# Altium footprint library CON SFM-115-02-x-D.PcbLib: 1 footprints
Each footprint in its own frame and in the unit in brackets; x right, y up, seen from the top. Pads: shape width x height; smd on the part's side, far side on the other; paste and mask are expansions set on the pad; w line width, h text height; cw(c..) or ccw(c..) is an arc to the next point about the centre after c.
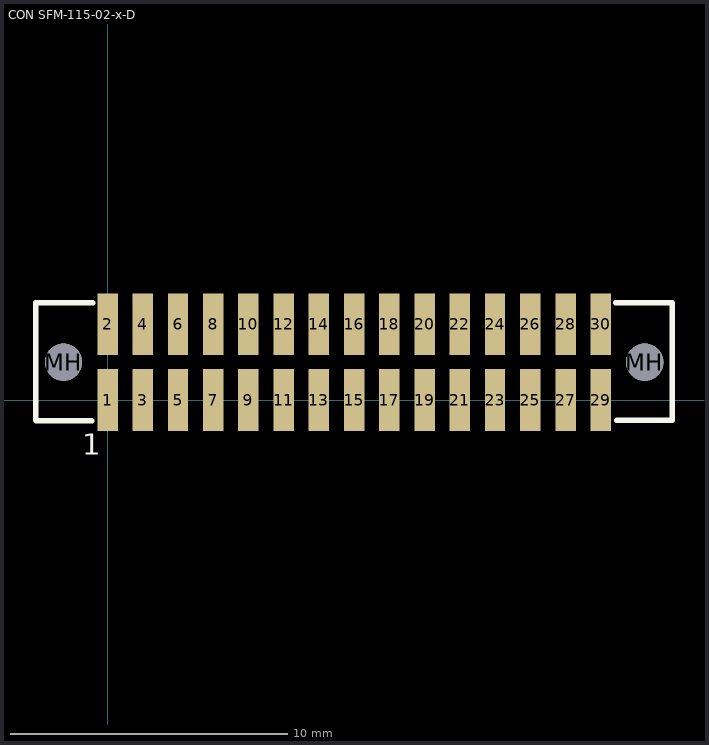
[diagram p0: the footprint, top view; thin cyan lines are the x and y axes]

## CON SFM-115-02-x-D [mil] "Samtec CON SFM-115-02-x-D Surface Mount Connector"
pads (32):
  rect 29x87.5 smd: 1(0,0) 2(0,107.5) 3(50,0) 4(50,107.5) 5(100,0) 6(100,107.5) 7(150,0) 8(150,107.5) 9(200,0) 10(200,107.5) 11(250.14,0.06) 12(250.14,107.56) 13(299.87,0.06) 14(299.87,107.56) 15(350.08,0.06) 16(350.08,107.56) 17(400,0) 18(400,107.5) 19(450,0) 20(450,107.5) 21(500,0) 22(500,107.5) 23(550,0) 24(550,107.5) 25(600,0) 26(600,107.5) 27(650.14,0.06) 28(650.14,107.56) 29(699.87,0.06) 30(699.87,107.56)
  round 53 hole 53 unplated: MH(-62.5,53.75) MH(762.5,53.75)
TopOverlay:
  lines w8: -22.67,-29.21 -101.49,-29.21 -101.85,-28.84 -101.85,138.24 -20.85,138.24 ; 721.2,138.24 801.1,138.24 801.47,137.87 801.47,-28.84 723.01,-28.84
  text "1" at -36.14,-77.32 h30
3D body: height 185.6, standoff 0.6, extent -101.85,-28.84 803.15,138.66